# Altium footprint library Transistors.PcbLib: 9 footprints
Each footprint in its own frame and in the unit in brackets; x right, y up, seen from the top. Pads: shape width x height; smd on the part's side, far side on the other; paste and mask are expansions set on the pad; w line width, h text height; cw(c..) or ccw(c..) is an arc to the next point about the centre after c.
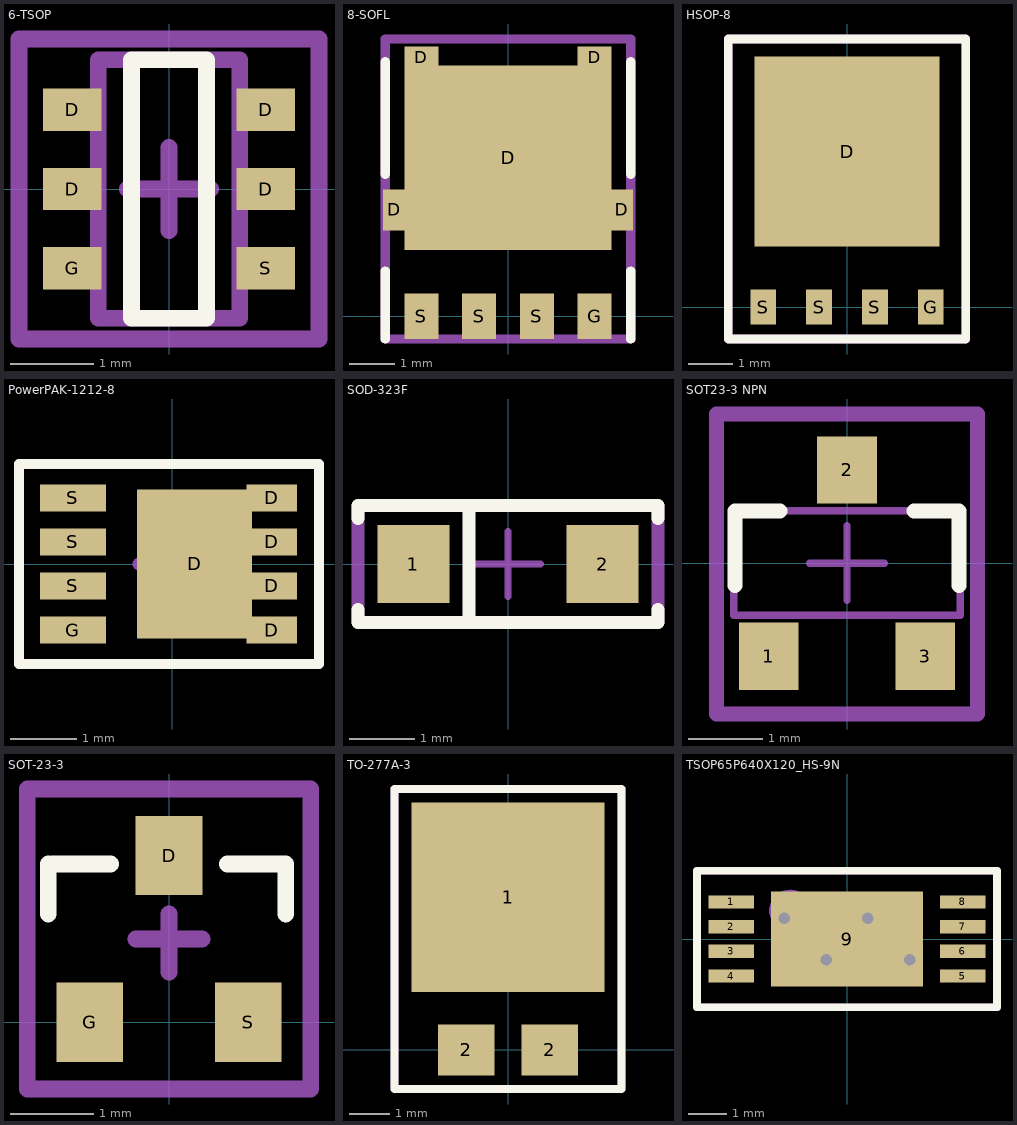
[diagram p0: the footprints below, top view; thin cyan lines are the x and y axes]

## 6-TSOP [mil]
height 43.31
pads (6):
  rect 27.52x20 smd: D(-45.77,0) D(-45.77,37.4) D(45.77,0) D(45.77,37.4) G(-45.77,-37.4) S(45.77,-37.4)
Top Overlay:
  lines w7.87: -17.72,-61.02 -17.72,61.02 17.72,61.02 17.72,-61.02 -17.72,-61.02
  text "." at -91.38,78.9 h60
Top Assembly:
  lines w7.87: -33.46,-61.02 -33.46,61.02 33.46,61.02 33.46,-61.02 -33.46,-61.02
  text "'.Designator'" at -156.33,105.61 h31.5
Mechanical 15:
  lines w7.87: -19.68,0 19.69,0 ; 0,-19.68 0,19.69 ; -70.87,-70.87 -70.87,70.87 70.87,70.87 70.87,-70.87 -70.87,-70.87
3D body "6-TSOP.step": height 43.31, standoff 0, extent -55.61,-61.02 55.61,61.03

## 8-SOFL [mm]
pads (9):
  rect 0.495x0.905 smd: D(-2.5,2.338) D(2.5,2.338)
  rect 0.75x0.475 smd: D(-1.905,5.7) D(1.905,5.7)
  rect 4.56x4.055 smd: D(0,3.49)
  rect 0.75x1 smd: G(1.905,0) S(-1.905,0) S(-0.635,0) S(0.635,0)
Top Overlay:
  lines w0.2: -2.7,-0.5 -2.7,1 ; -2.7,3.125 -2.7,5.6 ; 2.7,-0.5 2.7,1 ; 2.7,3.125 2.7,5.6
  text "." at -2.046,-1.346 h1.52
Top Assembly:
  lines w0.2: -2.7,-0.5 2.7,-0.5 2.7,6.1 -2.7,6.1 -2.7,-0.5
  text "'.Designator'" at -4.346,6.632 h0.8
Mechanical 15:
  lines w0.2: -0.6,2.9 0.4,2.9 ; -0.109,2.387 -0.109,3.387 ; -2.7,-0.5 2.7,-0.5 2.7,6.1 -2.7,6.1 -2.7,-0.5
3D body "User Library-DFN5x6_SO8FL.STEP": height 1.13, standoff 0, extent -2.575,-0.3 2.575,5.85

## HSOP-8 [mm]
pads (5):
  rect 4.21x4.32 smd: D(0,3.54)
  rect 0.59x0.8 smd: G(1.905,0) S(-1.905,0) S(-0.635,0) S(0.635,0)
Top Overlay:
  lines w0.2: -2.7,-0.725 2.7,-0.725 2.7,6.1 -2.7,6.1 -2.7,-0.725
  text "." at -2.496,-1.371 h1.52
Top Assembly:
  lines w0.2: -2.7,-0.725 -2.7,6.1 2.7,6.1 2.7,-0.725 -2.7,-0.725
  text "'.Designator'" at -4.399,6.899 h0.8
Mechanical 15:
  lines w0.2: -0.6,2.9 0.4,2.9 ; -0.109,2.387 -0.109,3.387 ; -2.7,-0.725 2.7,-0.725 2.7,6.1 -2.7,6.1 -2.7,-0.725

## PowerPAK-1212-8 [mm]
pads (9):
  rect 1.725x2.235 smd: D(0.335,0)
  rect 0.76x0.405 smd: D(1.493,-0.99) D(1.493,-0.33) D(1.493,0.33) D(1.493,0.99)
  rect 0.99x0.405 smd: G(-1.492,-0.99) S(-1.492,-0.33) S(-1.492,0.33) S(-1.492,0.99)
Top Overlay:
  lines w0.153: -2.3,-1.5 2.2,-1.5 2.2,1.5 -2.3,1.5 -2.3,-1.5
  text "." at -3.196,1.729 h1.52
Top Assembly:
  lines w0.153: -2.3,-1.5 -2.3,1.5 2.2,1.5 2.2,-1.5 -2.3,-1.5
  text "'.Designator'" at -2.147,1.92 h0.8
Mechanical 15:
  lines w0.153: -2.3,-1.5 -2.3,1.5 2.2,1.5 2.2,-1.5 -2.3,-1.5
  lines w0.2: -0.5,0 0.5,0 ; 0,-0.5 0,0.5
3D body "POWERPAK 1212-8SWLH.STEP": height 1.04, standoff 0, extent -1.65,-1.525 1.65,1.525

## SOD-323F [mm]
pads (2):
  rect 1.1x1.2 smd: 1(-1.45,0) 2(1.45,0)
Top Overlay:
  lines w0.2: -2.3,-0.7 -2.3,-0.9 2.3,-0.9 2.3,-0.7 ; -2.3,0.7 -2.3,0.9 2.3,0.9 2.3,0.7 ; -0.6,-0.9 -0.6,0.9
  text "." at -1.646,1.229 h1.52
Top Assembly:
  lines w0.2: -2.3,-0.9 -2.3,0.9 2.3,0.9 2.3,-0.9 -2.3,-0.9
  text "'.Designator'" at -3.571,1.757 h0.8
Mechanical 15:
  lines w0.1: -0.5,0 0.5,0 ; 0,-0.5 0,0.5
  lines w0.2: -2.3,-0.9 -2.3,0.9 2.3,0.9 2.3,-0.9 -2.3,-0.9
3D body "User Library-SOD-323F.STEP": height 0.79, standoff -0.08, extent -1.325,-0.675 1.375,0.675

## SOT23-3 NPN [mm]
height 1.12
pads (3):
  rect 0.8x0.9 smd: 1(-1.05,-1.25) 2(0,1.25) 3(1.05,-1.25)
Top Overlay:
  lines w0.2: -1.5,-0.3 -1.5,0.7 -0.9,0.7 ; 0.9,0.7 1.5,0.7 1.5,-0.3
Top Assembly:
  lines w0.1: -0.5,0 0.5,0 ; 0,-0.5 0,0.5 ; -1.52,-0.7 1.52,-0.7 1.52,0.7 -1.52,0.7 -1.52,-0.7
  text "'.Designator'" at -3.696,2.607 h0.8
Mechanical 15:
  lines w0.2: -1.75,-2.025 -1.75,2 1.75,2 1.75,-2.025 -1.75,-2.025
3D body "mmbt3904.stp": height 1.08, standoff 0, extent -1.5,-1.17 1.42,1.17

## SOT-23-3 [mm]
pads (3):
  rect 0.8x0.95 smd: D(0,2) G(-0.95,0) S(0.95,0)
Top Overlay:
  lines w0.2: -1.45,1.3 -1.45,1.9 ; -1.4,1.9 -0.7,1.9 ; 0.7,1.9 1.4,1.9 1.4,1.3
Top Assembly:
  lines w0.2: -1.7,-0.8 -1.7,2.8 1.7,2.8 1.7,-0.8 -1.7,-0.8
  text "'.Designator'" at -3.621,3.382 h0.8
Mechanical 15:
  lines w0.2: -0.4,1 0.4,1 ; 0,0.6 0,1.3 ; -1.7,-0.8 -1.7,2.8 1.7,2.8 1.7,-0.8 -1.7,-0.8
3D body "CircuitWorks-SOT-23.STEP": height 1.05, standoff -0.05, extent -1.5,-0.25 1.5,2.25

## TO-277A-3 [mm]
pads (3):
  rect 4.8x4.72 smd: 1(0,3.805)
  rect 1.4x1.27 smd: 2(-1.04,0) 2(1.04,0)
Top Overlay:
  lines w0.2: -2.825,-0.975 2.825,-0.975 2.825,6.5 -2.825,6.5 -2.825,-0.975
  text "." at -2.346,-1.721 h1.52
Top Assembly:
  lines w0.2: -2.825,-0.975 2.825,-0.975 2.825,6.5 -2.825,6.5 -2.825,-0.975
  text "'.Designator'" at -4.096,7.082 h0.8
Mechanical 15:
  lines w0.2: -0.6,2.9 0.4,2.9 ; -0.109,2.387 -0.109,3.387 ; -2.825,-0.975 2.825,-0.975 2.825,6.5 -2.825,6.5 -2.825,-0.975
3D body "User Library-DFN5x6_SO8FL.STEP": height 1.13, standoff 0, extent -2.575,-0.3 2.575,5.85

## TSOP65P640X120_HS-9N [mm] "TSOP, 8-Leads, Body 2,93x4,40mm, Pitch 0,65mm, Thermal Pad 2,50x4,00mm, IPC Medium Density"
height 1.2
pads (9):
  rect 1.2x0.35 smd: 1(-3.05,0.975) 2(-3.05,0.325) 3(-3.05,-0.325) 4(-3.05,-0.975) 5(3.05,-0.975) 6(3.05,-0.325) 7(3.05,0.325) 8(3.05,0.975)
  rect 4x2.5 smd: 9(0,0)
via -1.65,0.55 diameter 0.65 hole 0.3
via 0.55,0.55 diameter 0.65 hole 0.3
via -0.55,-0.55 diameter 0.65 hole 0.3
via 1.65,-0.55 diameter 0.65 hole 0.3
Top Overlay:
  lines w0.2: -3.95,-1.8 3.95,-1.8 3.95,1.8 -3.95,1.8 -3.95,-1.8
  text "." at -4.146,2.304 h1.52
Top Assembly:
  circle w0.1: c-1.5,0.75 r0.5
  lines w0.2: -3.95,-1.8 3.95,-1.8 3.95,1.8 -3.95,1.8 -3.95,-1.8
  text "'.Designator'" at -3.297,3.195 h0.8
Mechanical 15:
  lines w0.1: -0.5,0 0.5,0 ; 0,-0.5 0,0.5
  lines w0.2: -3.95,-1.8 -3.95,1.8 3.95,1.8 3.95,-1.8 -3.95,-1.8
3D body "TSOP65P640X120_HS-9N.step": height 1.2, standoff 0, extent -3.2,-1.5 3.2,1.5